# Altium schematic symbol library MAX668.SchLib: 1 symbol
Pins are listed as number, name and electrical type; pins without a type are passive.

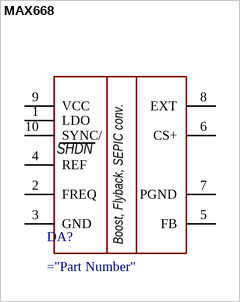
[diagram p0: symbol MAX668]

## MAX668
designator DA?
Boost, Flyback, SEPIC Regulator Positive, Isolation Capable Output Step-Up, Step-Up/Step-Down - DC-DC Controller IC 10-uMAX/uSOP; MP: MAX668EUB+T; MF: Maxim Integrated; Purchase-URL: https://pricing.snapeda.com/search/part/MAX668EUB+T/?ref=eda; Package: MICROMAX-10 Maxim; Value: *; Price: None; Availability: In Stock; SnapEDA_Link: https://www.snapeda.com/parts/MAX668EUB+T/Maxim+Integrated/view-part/?ref=snap; Check_prices: https://www.snapeda.com/parts/MAX668EUB+T/Maxim+Integrated/view-part/?ref=eda
pins: 1 LDO, 2 FREQ, 3 GND, 4 REF, 5 FB, 6 CS+, 7 PGND, 8 EXT, 9 VCC, 10 SYNC/
text: SHDN; Boost, Flyback, SEPIC conv.